# Altium schematic symbol library DPIN.SchLib: 1 symbol
Pins are listed as number, name and electrical type; pins without a type are passive.

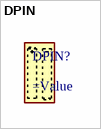
[diagram p0: symbol DPIN]

## DPIN
designator DPIN?
=Description